# EAGLE library part ARDUINO-CONNECTORS_STRIP-14 (library R3Mkr12F_MB)
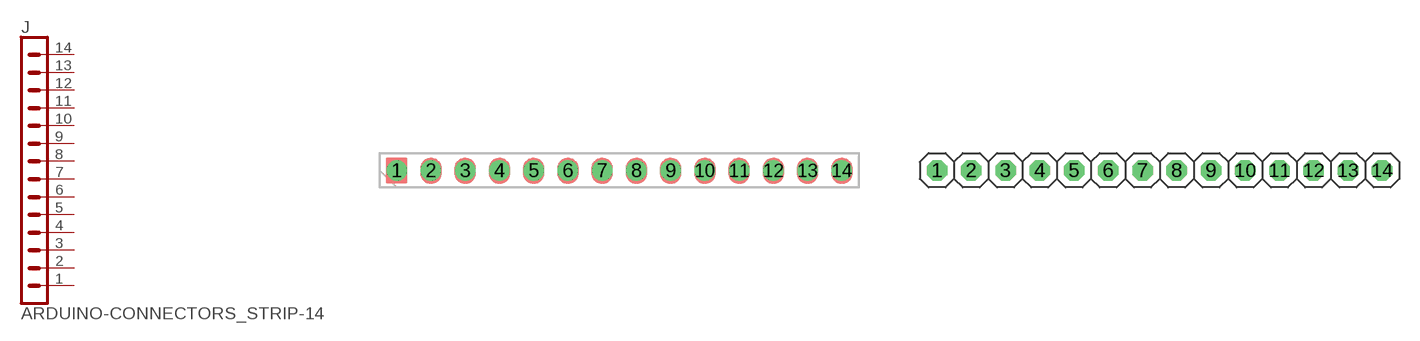
[diagram p0: symbol with the pads of ARDUINO-CONNECTORS_STRIP-14-MODULI-A11; footprints ARDUINO-CONNECTORS_STRIP-14-MODULI-A11, ARDUINO-CONNECTORS_1X14]

Designator prefix J

## ARDUINO-CONNECTORS_STRIP-14  [ARDUINO-CONNECTORS_STRIP-14-MODULI-A11]
1  1  pas
2  2  pas
3  3  pas
4  4  pas
5  5  pas
6  6  pas
7  7  pas
8  8  pas
9  9  pas
10  10  pas
11  11  pas
12  12  pas
13  13  pas
14  14  pas

## ARDUINO-CONNECTORS_STRIP-14STD  [ARDUINO-CONNECTORS_1X14]
Pads as for ARDUINO-CONNECTORS_STRIP-14-MODULI-A11

## Footprint ARDUINO-CONNECTORS_STRIP-14-MODULI-A11 (pad centres in mm)
drill 1: 1 0,0; 2 2.54,0; 3 5.08,0; 4 7.62,0; 5 10.16,0; 6 12.7,0; 7 15.24,0; 8 17.78,0; 9 20.32,0; 10 22.86,0; 11 25.4,0; 12 27.94,0; 13 30.48,0; 14 33.02,0

## Footprint ARDUINO-CONNECTORS_1X14 (pad centres in mm)
PIN HEADER
drill 1.016 octagon: 1 -16.51,0; 2 -13.97,0; 3 -11.43,0; 4 -8.89,0; 5 -6.35,0; 6 -3.81,0; 7 -1.27,0; 8 1.27,0; 9 3.81,0; 10 6.35,0; 11 8.89,0; 12 11.43,0; 13 13.97,0; 14 16.51,0